# Altium footprint library HC-SR04.PcbLib: 1 footprints
Each footprint in its own frame and in the unit in brackets; x right, y up, seen from the top. Pads: shape width x height; smd on the part's side, far side on the other; paste and mask are expansions set on the pad; w line width, h text height; cw(c..) or ccw(c..) is an arc to the next point about the centre after c.
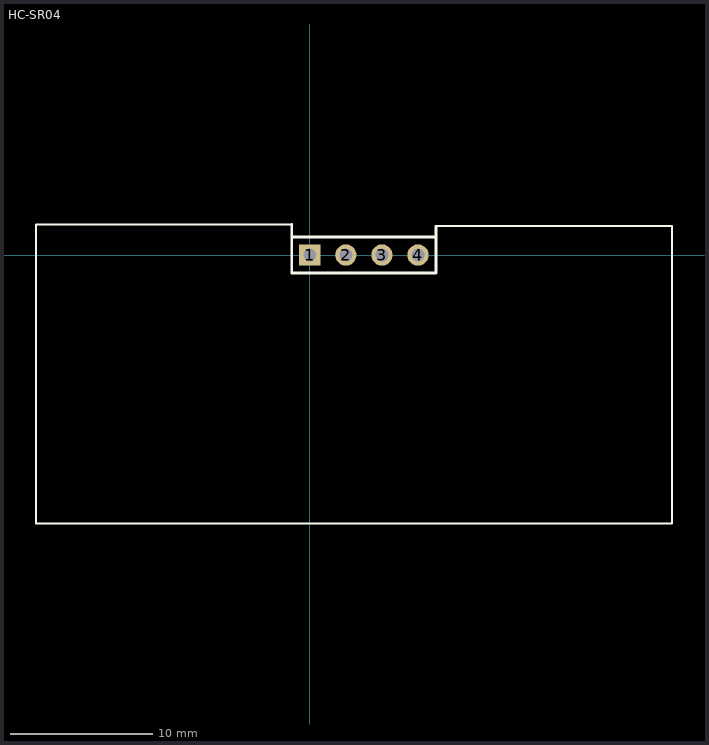
[diagram p0: the footprint, top view; thin cyan lines are the x and y axes]

## HC-SR04 [mm]
pads (4):
  rect 1.5x1.5 hole 0.9: 1(0,0)
  round 1.5 hole 0.9: 2(2.54,0) 3(5.08,0) 4(7.62,0)
Top Overlay:
  lines w0.135: -1.27,2.159 -19.304,2.159 -19.304,-18.923 25.527,-18.923 25.527,2.032 8.89,2.032
  lines w0.2: -1.27,1.27 8.89,1.27 ; -1.27,2.159 -1.27,-1.27 8.89,-1.27 8.89,2.032